# EAGLE library part 74LS193 (library shock_own)
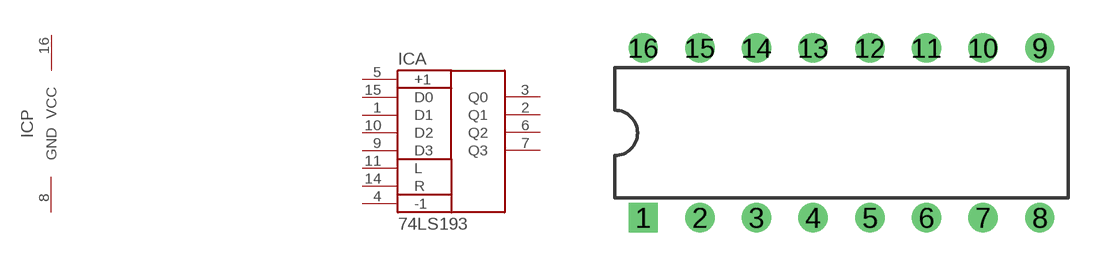
[diagram p3: symbol with the pads of DIP16; footprint DIP16]

Designator prefix IC; gates A=74LS193 P=PWRGND

## 74LS193  [DIP16]
1  A:D1
2  A:Q1
3  A:Q0
4  A:-1
5  A:+1
6  A:Q2
7  A:Q3
8  P:GND  pwr
9  A:D3
10  A:D2
11  A:L
14  A:R
15  A:D0
16  P:VCC  pwr

## Footprint DIP16 (pad centres in mm)
drill 0.813 square: 1 -8.89,-3.81
drill 0.813: 2 -6.35,-3.81; 3 -3.81,-3.81; 4 -1.27,-3.81; 5 1.27,-3.81; 6 3.81,-3.81; 7 6.35,-3.81; 8 8.89,-3.81; 9 8.89,3.81; 10 6.35,3.81; 11 3.81,3.81; 12 1.27,3.81; 13 -1.27,3.81; 14 -3.81,3.81; 15 -6.35,3.81; 16 -8.89,3.81